# EAGLE library part ADXL311 (library Perso)
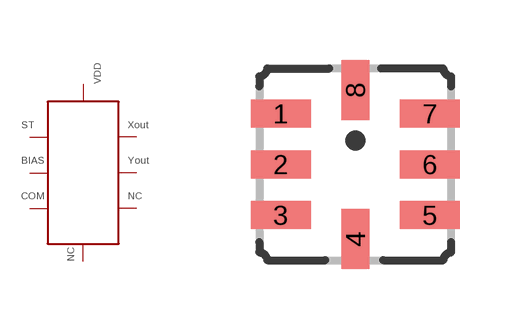
[diagram p0: symbol with the pads of CLCC8; footprint CLCC8]

Designator prefix -

## ADXL311  [CLCC8]
1  ST
2  BIAS
3  COM  pas
4  NC  nc
5  NC2  nc
6  YOUT  out
7  XOUT  out
8  VDD  pwr

## Footprint CLCC8 (pad centres in mm)
smd 1.5 x 0.7: 1 -1.867,1.27; 2 -1.867,0; 3 -1.867,-1.27; 5 1.867,-1.27; 6 1.867,0; 7 1.867,1.27
smd 0.7 x 1.5: 4 0,-1.867; 8 0,1.867